# EAGLE library part OSTTE06 (library parts)
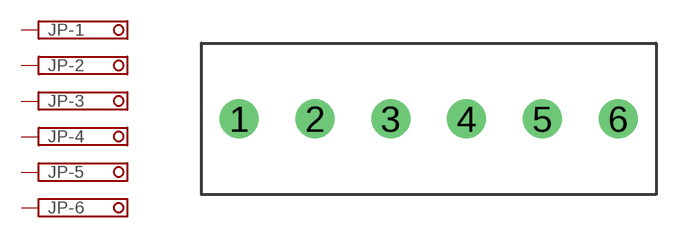
[diagram p2: symbol with the pads of OSTTE06; footprint OSTTE06]

Designator prefix JP; gates -1=SCHRAUBKLEMME -2=SCHRAUBKLEMME -3=SCHRAUBKLEMME -4=SCHRAUBKLEMME -5=SCHRAUBKLEMME -6=SCHRAUBKLEMME

## OSTTE06  [OSTTE06]
1  -1:K  pas
2  -2:K  pas
3  -3:K  pas
4  -4:K  pas
5  -5:K  pas
6  -6:K  pas

## Footprint OSTTE06 (pad centres in mm)
drill 1.2: 1 -8.75,0; 2 -5.25,0; 3 -1.75,0; 4 1.75,0; 5 5.25,0; 6 8.75,0